# Altium footprint library tecctrl.PcbLib: 33 footprints (part 3 of 3)
Each footprint in its own frame and in the unit in brackets; x right, y up, seen from the top. Pads: shape width x height; smd on the part's side, far side on the other; paste and mask are expansions set on the pad; w line width, h text height; cw(c..) or ccw(c..) is an arc to the next point about the centre after c.
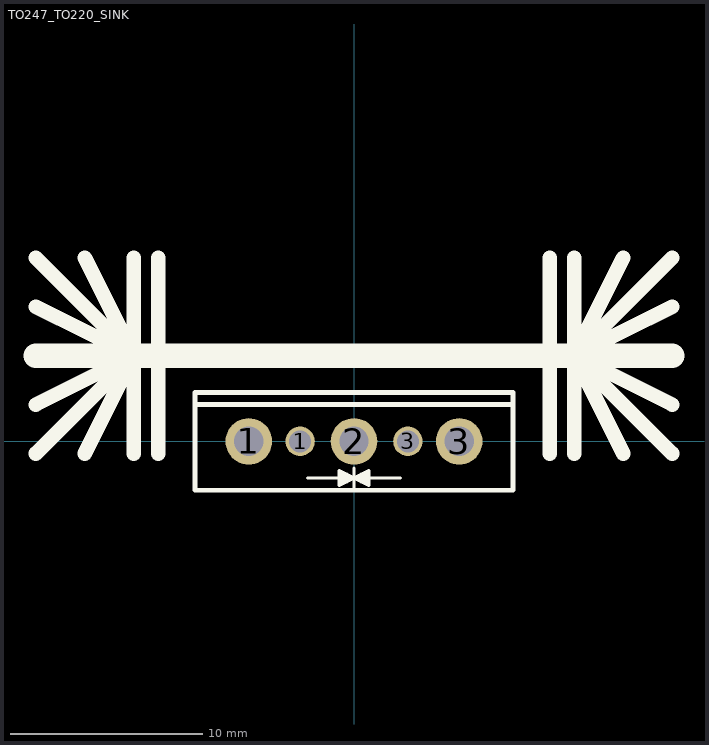
[diagram p2: the footprint, top view; thin cyan lines are the x and y axes]

## TO247_TO220_SINK [mil]
height 200
pads (5):
  round 95 hole 60: 1(-215,0) 2(0,0) 3(215,0)
  round 60 hole 45: 1(-110,0) 3(110,0)
Top Overlay:
  lines w7: -95,-75 0,-75 ; -25,-85 -25,-65 ; -20,-85 -20,-65 ; -15,-82.5 -15,-67.5 ; 0,-95 0,-55 ; 15,-82.5 15,-67.5 ; 20,-85 20,-65 ; 25,-85 25,-65 ; 95,-75 0,-75 ; 0,-75 -30,-90 -30,-60 0,-75 ; 0,-75 30,-90 30,-60 0,-75
  lines w10: -325,75 325,75 ; -325,-100 -325,100 325,100 325,-100 -325,-100
  lines w30: -650,-25 -450,175 ; -650,75 -450,175 ; -650,275 -450,175 ; -650,375 -450,175 ; -550,-25 -450,175 ; -550,375 -450,175 ; -450,-25 -450,175 ; -450,375 -450,175 ; -400,-25 -400,175 -400,375 ; 400,-25 400,175 400,375 ; 450,-25 450,175 ; 450,375 450,175 ; 550,-25 450,175 ; 550,375 450,175 ; 650,-25 450,175 ; 650,75 450,175 ; 650,275 450,175 ; 650,375 450,175
  lines w50: -650,175 650,175
3D body: height 1484.25, standoff 366.14, extent -665.35,-66.69 665.35,390
3D body: height 994.25, standoff -123.86, extent -665.35,-66.69 665.35,390
3D body: height 1043.7, standoff -375.53, extent -311.02,-94 311.03,115.06